# Altium footprint library PcbLib1_HMI3D.PcbLib: 27 footprints (part 1 of 2)
Each footprint in its own frame and in the unit in brackets; x right, y up, seen from the top. Pads: shape width x height; smd on the part's side, far side on the other; paste and mask are expansions set on the pad; w line width, h text height; cw(c..) or ccw(c..) is an arc to the next point about the centre after c.
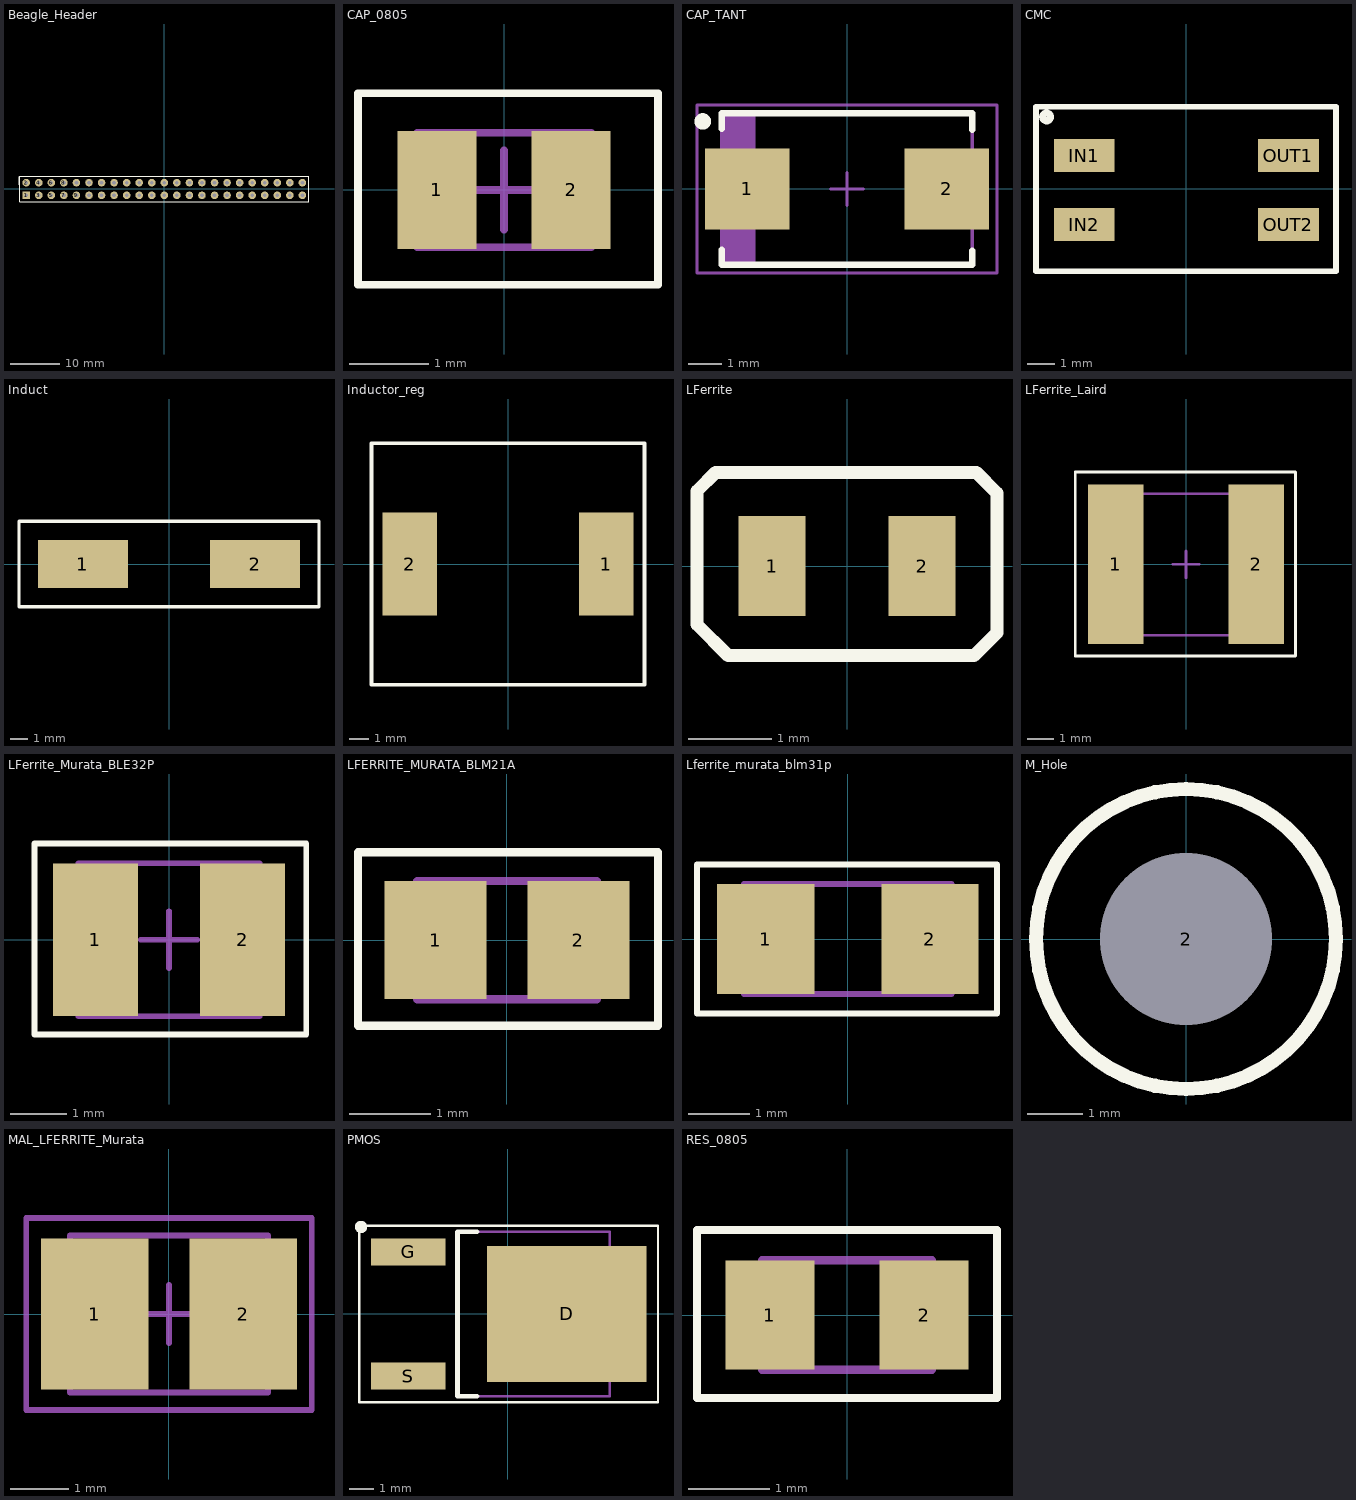
[diagram p0: the footprints below, top view; thin cyan lines are the x and y axes]

## Beagle_Header [mil]
pads (46):
  rect 60x60 hole 30 mask+2: 1(-1100.11,-51.11)
  round 60 hole 30 mask+2: 2(-1100.11,48.89) 3(-1000.11,-51.11) 4(-1000.11,48.89) 5(-900.11,-51.11) 6(-900.11,48.89) 7(-800.11,-51.11) 8(-800.11,48.89) 9(-700.11,-51.11) 10(-700.11,48.89) 11(-600.11,-51.11) 12(-600.11,48.89) 13(-500.11,-51.11) 14(-500.11,48.89) 15(-400.11,-51.11) 16(-400.11,48.89) 17(-300.11,-51.11) 18(-300.11,48.89) 19(-200.11,-51.11) 20(-200.11,48.89) 21(-100.11,-51.11) 22(-100.11,48.89) 23(-0.11,-51.11) 24(-0.11,48.89) 25(99.89,-51.11) 26(99.89,48.89) 27(199.89,-51.11) 28(199.89,48.89) 29(299.89,-51.11) 30(299.89,48.89) 31(399.89,-51.11) 32(399.89,48.89) 33(499.89,-51.11) 34(499.89,48.89) 35(599.89,-51.11) 36(599.89,48.89) 37(699.89,-51.11) 38(699.89,48.89) 39(799.89,-51.11) 40(799.89,48.89) 41(899.89,-51.11) 42(899.89,48.89) 43(999.89,-51.11) 44(999.89,48.89) 45(1099.89,-51.11) 46(1099.89,48.89)
Top Overlay:
  lines w1: -1150.11,-101.11 -1150.11,98.89 -1050.11,98.89 1149.89,98.89 1149.89,-101.11 -1050.11,-101.11 -1150.11,-101.11
  lines w7.87: -1157.7,32.83 -1157.7,94.84
Bottom Overlay:
  lines w7.87: -1157.7,32.83 -1157.7,94.71

## CAP_0805 [mm] "Chip Capacitor, 2-Leads, Body 2,0x1,3mm, IPC Medium Density"
height 1
pads (2):
  rect 1x1.5 smd: 1(-0.85,0) 2(0.85,0)
Top Overlay:
  lines w0.1: -1.85,-1.2 -1.85,1.225 1.95,1.225 1.95,-1.2 -1.85,-1.2
Mechanical 13:
  lines w0.1: -1.1,-0.725 1.1,-0.725 1.1,0.725 -1.1,0.725 -1.1,-0.725
Mechanical 15:
  lines w0.1: -0.5,0 0.5,0 ; 0,-0.5 0,0.5
3D body: height 1, standoff 0, extent -1.1,-0.725 1.1,0.725

## CAP_TANT [mm] "Molded Capacitor, 2-Leads, Body 7,3x4,3mm, IPC Medium Density"
height 3.1
pads (2):
  rect 2.55x2.45 smd: 1(-3.025,0) 2(3.025,0)
Top Overlay:
  circle w0.25: c-4.375,2.05 r0.125
  lines w0.2: -3.8,-1.85 -3.8,-2.3 3.8,-2.3 3.8,-1.875 ; -3.8,1.825 -3.8,2.3 3.8,2.3 3.8,1.8
Mechanical 13:
  rectangle: -3.8,-2.3 -2.778,2.3
  lines w0.1: -3.8,-2.3 -3.8,2.3 3.8,2.3 3.8,-2.3 -3.8,-2.3
Mechanical 15:
  lines w0.1: -0.5,0 0.5,0 ; 0,-0.5 0,0.5 ; -4.55,-2.55 -4.55,2.55 4.55,2.55 4.55,-2.55 -4.55,-2.55
3D body: height 3.1, standoff 0, extent -3.8,-2.3 3.8,2.3

## CMC [mm]
pads (4):
  rect 2.2x1.2 smd: IN1(-3.7,1.2) IN2(-3.7,-1.3) OUT1(3.7,1.2) OUT2(3.7,-1.3)
Top Overlay:
  lines w0.2: -5.45,2.925 -5.45,-3 5.425,-3 5.425,2.975 -5.45,2.975
  lines w0.254: -4.926,2.618 ccw(c-5.066,2.6) -4.925,2.6
3D body: height 1.3, standoff 0.5, extent -3.6,-2.9 3.7,2.8

## Induct [mm]
pads (2):
  rect 5.3x2.8 smd: 1(-5.05,0) 2(5.05,0)
Top Overlay:
  lines w0.2: -8.8,-2.5 -8.8,0 -8.8,2.5 8.8,2.5 8.8,-2.5 -8.8,-2.5

## Inductor_reg [mm] "http://www.mouser.es/ProductDetail/Bourns/SRR1210-150M/?qs=sGAEpiMZZMsg%252by3WlYCkUxKwhsadNScOnUzWVEJhwXc%3d"
pads (2):
  rect 2.8x5.3 smd: 1(5.05,0) 2(-5.05,0)
Top Overlay:
  lines w0.2: -7,-6.2 -7,-1.2 -7,6.2 7,6.2 7,-6.2 -7,-6.2
3D body: height 10, standoff 0, extent -6.2,-6.1 6.2,6.1

## LFerrite [mm]
pads (2):
  rect 0.8x1.2 smd: 1(-0.9,0) 2(0.9,0)
Top Overlay:
  lines w0.154: -1.8,-0.7 -1.8,0.9 -1.575,1.125 1.55,1.125 1.8,0.875 1.8,-0.8 1.525,-1.075 -1.425,-1.075 -1.8,-0.7
3D body: height 1, standoff 0, extent -1.2,-0.5 1.2,0.5

## LFerrite_Laird [mm] "Chip Inductor, 2-Leads, Body 5,6x5,1mm, IPC Medium Density"
height 3.3
pads (2):
  rect 2.1x6 smd: 1(-2.65,0) 2(2.65,0)
Top Overlay:
  lines w0.1: -4.175,-3.45 -4.175,3.475 4.125,3.475 4.125,-3.45 -4.175,-3.45
Mechanical 13:
  lines w0.1: -3.05,-2.665 3.05,-2.665 3.05,2.665 -3.05,2.665 -3.05,-2.665
Mechanical 15:
  lines w0.1: -0.5,0 0.5,0 ; 0,-0.5 0,0.5
3D body: height 3.3, standoff 0, extent -3.05,-2.665 3.05,2.665

## LFerrite_Murata_BLE32P [mm] "Chip Inductor, 2-Leads, Body 3,1x2,5mm, IPC Medium Density"
height 2.2
pads (2):
  rect 1.5x2.7 smd: 1(-1.3,0) 2(1.3,0)
Top Overlay:
  lines w0.1: -2.375,-1.675 2.425,-1.675 2.425,1.7 -2.375,1.7 -2.375,-1.675
Mechanical 13:
  lines w0.1: -1.6,-1.35 1.6,-1.35 1.6,1.35 -1.6,1.35 -1.6,-1.35
Mechanical 15:
  lines w0.1: -0.5,0 0.5,0 ; 0,-0.5 0,0.5
3D body: height 2.2, standoff 0, extent -1.6,-1.35 1.6,1.35

## LFERRITE_MURATA_BLM21A [mm] "Chip Inductor, 2-Leads, Body 2,0x1,3mm, IPC Medium Density"
height 1.05
pads (2):
  rect 1.25x1.45 smd: 1(-0.875,0) 2(0.875,0)
Top Overlay:
  lines w0.1: -1.825,-1.05 1.85,-1.05 1.85,1.075 -1.825,1.075 -1.825,-1.05
Mechanical 13:
  lines w0.1: -1.1,-0.725 1.1,-0.725 1.1,0.725 -1.1,0.725 -1.1,-0.725
3D body: height 1.05, standoff 0, extent -1.1,-0.725 1.1,0.725

## Lferrite_murata_blm31p [mm] "Chip Inductor, 2-Leads, Body 3,2x1,6mm, IPC Medium Density"
height 1.3
pads (2):
  rect 1.6x1.8 smd: 1(-1.35,0) 2(1.35,0)
Top Overlay:
  lines w0.1: -2.475,-1.225 2.45,-1.225 2.45,1.225 -2.475,1.225 -2.475,-1.225
Mechanical 13:
  lines w0.1: -1.7,-0.9 1.7,-0.9 1.7,0.9 -1.7,0.9 -1.7,-0.9
3D body: height 1.3, standoff 0, extent -1.7,-0.9 1.7,0.9

## M_Hole [mil]
pads (1):
  round 60 hole 122.05 unplated: 2(0,0)
Top Overlay:
  circle w10: c-0.07,0 r106.37
Multi-Layer:
  circle w39.37: c0,0 r82.68

## MAL_LFERRITE_Murata [mm] "Molded Inductor, 2-Leads, Body 3,2x2,5mm, IPC Medium Density"
height 2.2
pads (2):
  rect 1.85x2.6 smd: 1(-1.275,0) 2(1.275,0)
Mechanical 13:
  lines w0.1: -1.7,-1.35 -1.7,1.35 1.7,1.35 1.7,-1.35 -1.7,-1.35
Mechanical 15:
  lines w0.1: -0.5,0 0.5,0 ; 0,-0.5 0,0.5 ; -2.45,-1.65 -2.45,1.65 2.45,1.65 2.45,-1.65 -2.45,-1.65
3D body: height 2.2, standoff 0, extent -1.7,-1.35 1.7,1.35

## PCBComponent_1 [mm]

## PMOS [mm] "D-PAK, 3-Pads, Body 6,2x6,7mm (max), IPC Medium Density"
height 2.39
pads (3):
  rect 6.5x5.55 smd: D(2.4,0)
  rect 3.05x1.1 smd: G(-4.05,2.529) S(-4.05,-2.529)
Top Overlay:
  circle w0.25: c-5.975,3.55 r0.125
  lines w0.1: -6.05,-3.6 6.125,-3.6 6.125,3.6 -6.05,3.6 -6.05,-3.6
  lines w0.2: -1.25,-3.35 -2.05,-3.35 -2.05,3.35 -1.25,3.35
Mechanical 13:
  lines w0.1: -2.05,-3.35 4.15,-3.35 4.15,3.35 -2.05,3.35 -2.05,-3.35
Mechanical 15:
  lines w0.1: -0.5,0 0.5,0 ; 0,-0.5 0,0.5
3D body: height 2.39, standoff 0, extent -2.05,-3.35 4.15,3.35

## RES_0805 [mm] "Chip Resistor, 2-Leads, Body 2,0x1,3mm, IPC Medium Density"
height 0.65
pads (2):
  rect 1.1x1.35 smd: 1(-0.95,0) 2(0.95,0)
Top Overlay:
  lines w0.1: -1.85,-1.025 -1.85,1.05 1.85,1.05 1.85,-1.025 -1.85,-1.025
Mechanical 13:
  lines w0.1: -1.05,-0.675 1.05,-0.675 1.05,0.675 -1.05,0.675 -1.05,-0.675
3D body: height 0.65, standoff 0, extent -1.05,-0.675 1.05,0.675